# Altium schematic symbol library GRM188R72A472KA01D.SchLib: 1 symbol
Pins are listed as number, name and electrical type; pins without a type are passive.

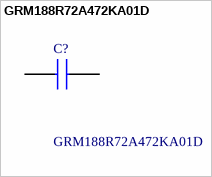
[diagram p0: symbol GRM188R72A472KA01D]

## GRM188R72A472KA01D
designator C?
MURATA - GRM188R72A472KA01D - CAP, MLCC, X7R, 4700PF, 100V, 0603; Manufacturer_Name: Murata Electronics; Geometry.Height: 0.9mm; Mouser Part Number: 81-GRM188R72A472KA1D; Mouser Price/Stock: https://www.mouser.co.uk/ProductDetail/Murata-Electronics/GRM188R72A472KA01D/?qs=1sBJ7SVnad864hemxclRdQ%3D%3D; Manufacturer_Part_Number: GRM188R72A472KA01D; Datasheet Link: https://search.murata.co.jp/Ceramy/image/img/A01X/G101/ENG/GRM188R72A472KA01-01A.pdf
footprint CAPC1608X90N
pins: 1, 2